# Altium schematic symbol library RT8008-33GB.SchLib: 1 symbol
Pins are listed as number, name and electrical type; pins without a type are passive.

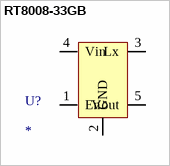
[diagram p0: symbol RT8008-33GB]

## RT8008-33GB
designator U?
footprint SOT23, 5
pins: 1 En, 2 GND, 3 Lx, 4 Vin, 5 Vout